# EAGLE library part BGM11S22F256GA-V2 (library NM_Visual_Cortex_12-10-18)
Bluetooth/802.15.1 Modules Bluetooth 4.x SiP Module 3dbm w/ant
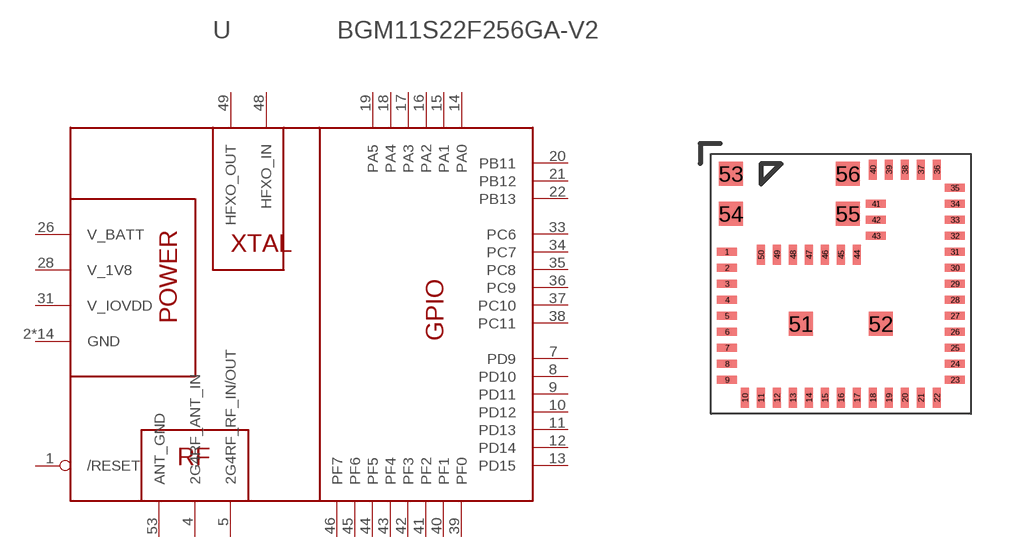
[diagram p5: symbol with the pads of SILAB_SIP_MODULE; footprint SILAB_SIP_MODULE]

Designator prefix U

## BGM11S22F256GA-V2 (DESCRIPTION: Bluetooth/802.15.1 Modules Bluetooth 4.x SiP Module; MF: Silicon Labs; MP: BGM11S12F256GA-V2; OUTPUTPOWER: 3 dBm)  [SILAB_SIP_MODULE]
1  /RESET
2  GND
3  GND
4  2G4RF_ANT_IN
5  2G4RF_RF_IN/OUT
6  GND
7  PD9
8  PD10
9  PD11
10  PD12
11  PD13
12  PD14
13  PD15
14  PA0
15  PA1
16  PA2
17  PA3
18  PA4
19  PA5
20  PB11
21  PB12
22  PB13
25  GND
26  V_BATT
27  GND
28  V_1V8
29  GND
31  V_IOVDD
32  GND
33  PC6
34  PC7
35  PC8
36  PC9
37  PC10
38  PC11
39  PF0
40  PF1
41  PF2
42  PF3
43  PF4
44  PF5
45  PF6
46  PF7
47  GND
48  HFXO_IN
49  HFXO_OUT
50  GND
51  GND
52  GND
53  ANT_GND
54  GND
55  GND
56  GND

## Footprint SILAB_SIP_MODULE (pad centres in mm)
smd 0.5 x 0.2: 1 -2.85,0.8; 2 -2.85,0.4; 3 -2.85,0; 4 -2.85,-0.4; 5 -2.85,-0.8; 6 -2.85,-1.2; 7 -2.85,-1.6; 8 -2.85,-2; 9 -2.85,-2.4; 23 2.85,-2.4; 24 2.85,-2; 25 2.85,-1.6; 26 2.85,-1.2; 27 2.85,-0.8; 28 2.85,-0.4; 29 2.85,0; 30 2.85,0.4; 31 2.85,0.8; 32 2.85,1.2; 33 2.85,1.6; 34 2.85,2; 35 2.85,2.4; 41 0.875,2; 42 0.875,1.6; 43 0.875,1.2
smd 0.2 x 0.5: 10 -2.4,-2.85; 11 -2,-2.85; 12 -1.6,-2.85; 13 -1.2,-2.85; 14 -0.8,-2.85; 15 -0.4,-2.85; 16 0,-2.85; 17 0.4,-2.85; 18 0.8,-2.85; 19 1.2,-2.85; 20 1.6,-2.85; 21 2,-2.85; 22 2.4,-2.85; 36 2.4,2.85; 37 2,2.85; 38 1.6,2.85; 39 1.2,2.85; 40 0.8,2.85; 44 0.4,0.725; 45 0,0.725; 46 -0.4,0.725; 47 -0.8,0.725; 48 -1.2,0.725; 49 -1.6,0.725; 50 -2,0.725
smd 0.6 x 0.6: 51 -1,-1; 52 1,-1; 53 -2.75,2.75; 54 -2.75,1.75; 55 0.175,1.75; 56 0.175,2.75